# EAGLE library part MCP1640 (library iSENSE_Data_Logger)
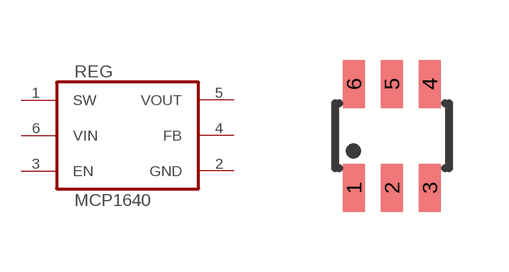
[diagram p0: symbol with the pads of SOT23-6; footprint SOT23-6]

Designator prefix REG

## MCP1640-SOT23-6  [SOT23-6]
1  SW  pas
2  GND  pwr
3  EN  in
4  FB  in
5  VOUT  pwr
6  VIN  pwr

## Footprint SOT23-6 (pad centres in mm)
smd 0.55 x 1.2: 1 -0.95,-1.3; 2 0,-1.3; 3 0.95,-1.3; 4 0.95,1.3; 5 0,1.3; 6 -0.95,1.3